# Altium footprint library sullins_conn_headers.PcbLib: 5 footprints
Each footprint in its own frame and in the unit in brackets; x right, y up, seen from the top. Pads: shape width x height; smd on the part's side, far side on the other; paste and mask are expansions set on the pad; w line width, h text height; cw(c..) or ccw(c..) is an arc to the next point about the centre after c.
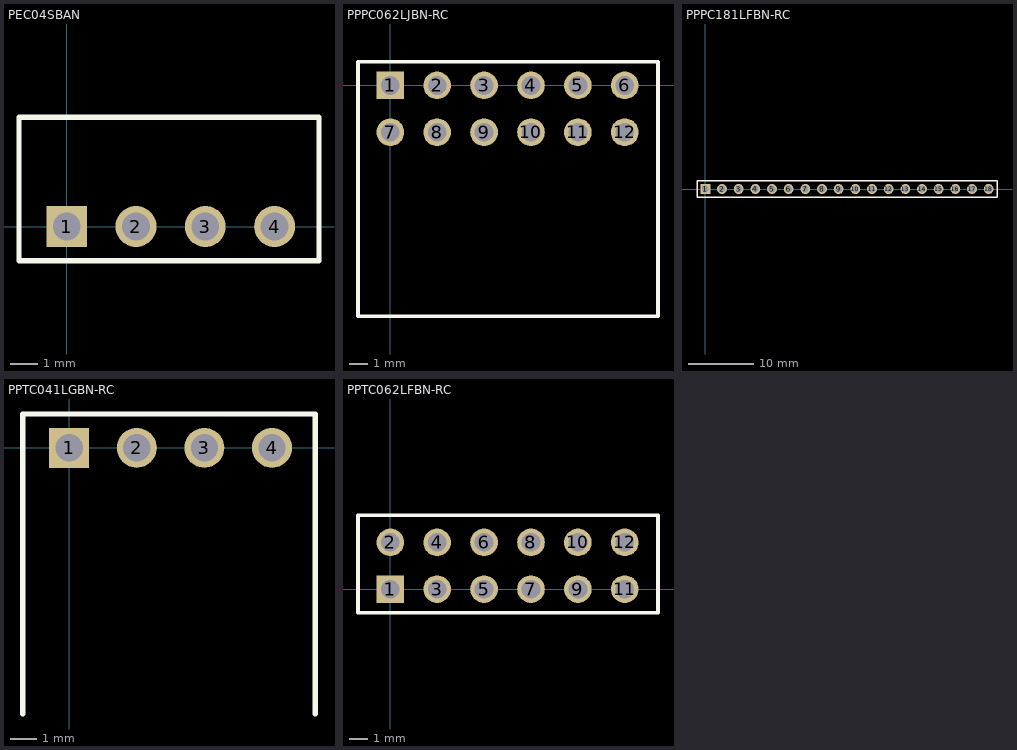
[diagram p0: the footprints below, top view; thin cyan lines are the x and y axes]

## PEC04SBAN [mm] "CONN HEADER R/A 4POS 2.54MM"
height 2.54
pads (4):
  rect 1.5x1.5 hole 1.02: 1(0,0)
  round 1.5 hole 1.02: 2(2.54,0) 3(5.08,0) 4(7.62,0)
Top Overlay:
  lines w0.2: -1.75,-1.25 9.25,-1.25 9.25,4 -1.75,4 -1.75,-1.25
3D body "_ _C04SBAN.step": height 3.56, standoff -2.54, extent -1.27,-0.381 8.89,9.842

## PPPC062LJBN-RC [mm] "CONN HDR 12POS 0.1 GOLD PCB R/A"
height 5
pads (12):
  rect 1.5x1.5 hole 1.02: 1(0,0)
  round 1.5 hole 1.02: 2(2.54,0) 3(5.08,0) 4(7.62,0) 5(10.16,0) 6(12.7,0) 7(0,-2.54) 8(2.54,-2.54) 9(5.08,-2.54) 10(7.62,-2.54) 11(10.16,-2.54) 12(12.7,-2.54)
Top Overlay:
  lines w0.2: -1.75,-12.5 14.5,-12.5 14.5,1.27 -1.75,1.27 -1.75,-12.5
3D body "_ _ _C062LJBN-RC.STEP": height 5.08, standoff -3.15, extent -1.5,-12.59 14.24,0.25

## PPPC181LFBN-RC [mm] "CONN HDR 18POS 0.1 GOLD PCB"
height 8.5
pads (18):
  rect 1.5x1.5 hole 1.02: 1(0,0)
  round 1.5 hole 1.02: 2(2.54,0) 3(5.08,0) 4(7.62,0) 5(10.16,0) 6(12.7,0) 7(15.24,0) 8(17.78,0) 9(20.32,0) 10(22.86,0) 11(25.4,0) 12(27.94,0) 13(30.48,0) 14(33.02,0) 15(35.56,0) 16(38.1,0) 17(40.64,0) 18(43.18,0)
Top Overlay:
  lines w0.2: -1.27,-1.27 44.45,-1.27 44.45,1.27 0.635,1.27 -1.27,1.27 -1.27,-1.27
3D body "_ _ _C181LFBN-RC.STEP": height 8.5, standoff -3.2, extent -1.5,-1.27 44.72,1.27

## PPTC041LGBN-RC [mm] "CONN HDR 4POS 0.1 TIN PCB R/A"
height 2.54
pads (4):
  rect 1.5x1.5 hole 1.02: 1(0,0)
  round 1.5 hole 1.02: 2(2.54,0) 3(5.08,0) 4(7.62,0)
Top Overlay:
  lines w0.2: -1.75,-10 -1.75,1.27 9.25,1.27 9.25,-10
3D body "_ _ _C041LGBN-RC.STEP": height 2.54, standoff -3.15, extent -1.56,-10.1 9.1,0.2

## PPTC062LFBN-RC [mm] "CONN HDR 12POS 0.1 TIN PCB"
height 0.009
pads (12):
  rect 1.5x1.5 hole 1.02: 1(0,0)
  round 1.5 hole 1.02: 2(0,2.54) 3(2.54,0) 4(2.54,2.54) 5(5.08,0) 6(5.08,2.54) 7(7.62,0) 8(7.62,2.54) 9(10.16,0) 10(10.16,2.54) 11(12.7,0) 12(12.7,2.54)
Top Overlay:
  lines w0.2: -1.75,-1.27 14.5,-1.27 14.5,4 -1.75,4 -1.75,-1.27
3D body "_ _ _C062LFBN-RC.STEP": height 8.5, standoff -3.2, extent -1.52,-1.27 14.22,3.81